# EAGLE library part 686106183522 (library CONNECTORs)
6 Position FFC Connector Contacts, Bottom 0.039" (1.00mm) Surface Mount, Right Angle
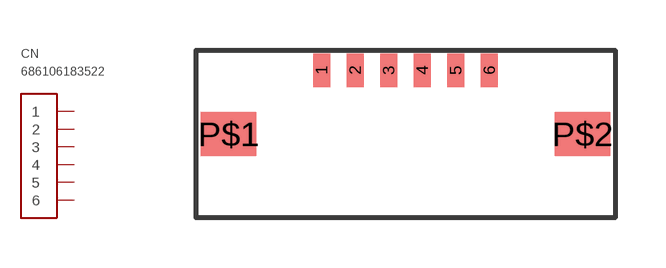
[diagram p77: symbol with the pads of 686106183522; footprint 686106183522]

Designator prefix CN

## 686106183522 (DIGIKEY: 732-11327-1-ND; HEIGHT: 1.2; PRICE_PER: 1.39; VALUE: 686106183522)  [686106183522]
1  1
2  2
3  3
4  4
5  5
6  6

## Footprint 686106183522 (pad centres in mm)
smd 0.5 x 1: 1 -2.5,1.9; 2 -1.5,1.9; 3 -0.5,1.9; 4 0.5,1.9; 5 1.5,1.9; 6 2.5,1.9
smd 1.65 x 1.3: P$1 -5.275,0; P$2 5.275,0